# EAGLE library part *555 (library 555,556-v2)
General purpose bipolar Timer
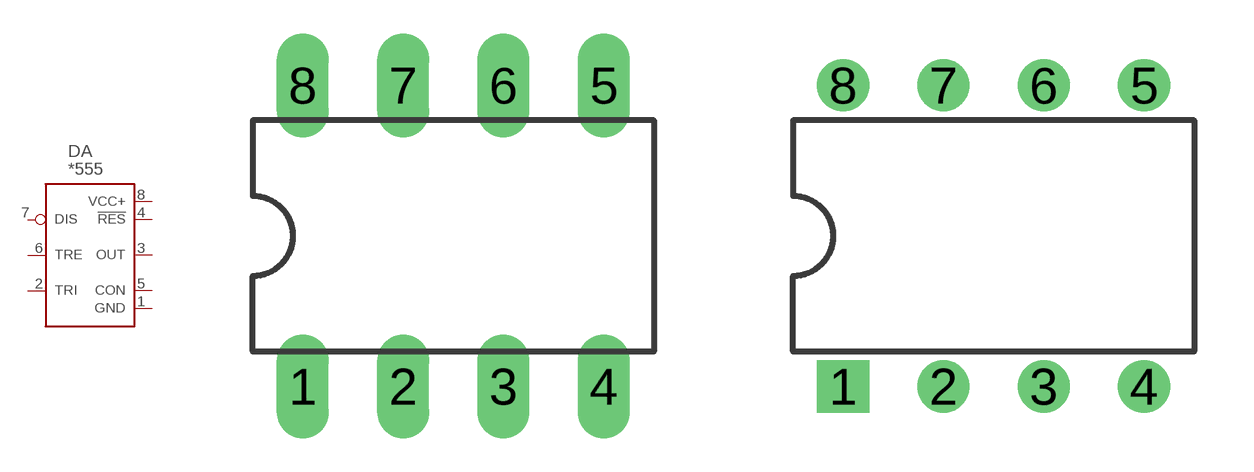
[diagram p0: symbol with the pads of DIL-08; footprints DIL-08, DIL8]

Designator prefix DA

## 555L  [DIL-08]
1  GND  pwr
2  TRI  in
3  OUT  out
4  !RES  in
5  CON  in
6  TRE  in
7  DIS  in
8  VCC+  pwr

## 555N  [DIL8]
Pads as for DIL-08

## 555D  [SOIC8]
Pads as for DIL-08

## 555M  [DIL14]
1  GND  pwr
3  TRI  in
4  OUT  out
6  !RES  in
8  CON  in
10  TRE  in
12  DIS  in
14  VCC+  pwr

## Footprint DIL-08 (pad centres in mm)
Dual In Line Package
drill 0.813 long: 1 -3.81,-3.81; 2 -1.27,-3.81; 3 1.27,-3.81; 4 3.81,-3.81; 5 3.81,3.81; 6 1.27,3.81; 7 -1.27,3.81; 8 -3.81,3.81

## Footprint DIL8 (pad centres in mm)
drill 0.813 square: 1 -3.81,-3.81
drill 0.813: 2 -1.27,-3.81; 3 1.27,-3.81; 4 3.81,-3.81; 5 3.81,3.81; 6 1.27,3.81; 7 -1.27,3.81; 8 -3.81,3.81

## Footprint SOIC8 (pad centres in mm)
Small Outline IC
smd 0.6 x 2.2: 1 -1.905,-2.6; 2 -0.635,-2.6; 3 0.635,-2.6; 4 1.905,-2.6; 5 1.905,2.6; 6 0.635,2.6; 7 -0.635,2.6; 8 -1.905,2.6

## Footprint DIL14 (pad centres in mm)
Dual In Line Package
drill 0.813 long: 1 -7.62,-3.81; 2 -5.08,-3.81; 3 -2.54,-3.81; 4 0,-3.81; 5 2.54,-3.81; 6 5.08,-3.81; 7 7.62,-3.81; 8 7.62,3.81; 9 5.08,3.81; 10 2.54,3.81; 11 0,3.81; 12 -2.54,3.81; 13 -5.08,3.81; 14 -7.62,3.81